# Altium footprint library Lib Marius.PcbLib: 393 footprints (part 17 of 25)
Each footprint in its own frame and in the unit in brackets; x right, y up, seen from the top. Pads: shape width x height; smd on the part's side, far side on the other; paste and mask are expansions set on the pad; w line width, h text height; cw(c..) or ccw(c..) is an arc to the next point about the centre after c.
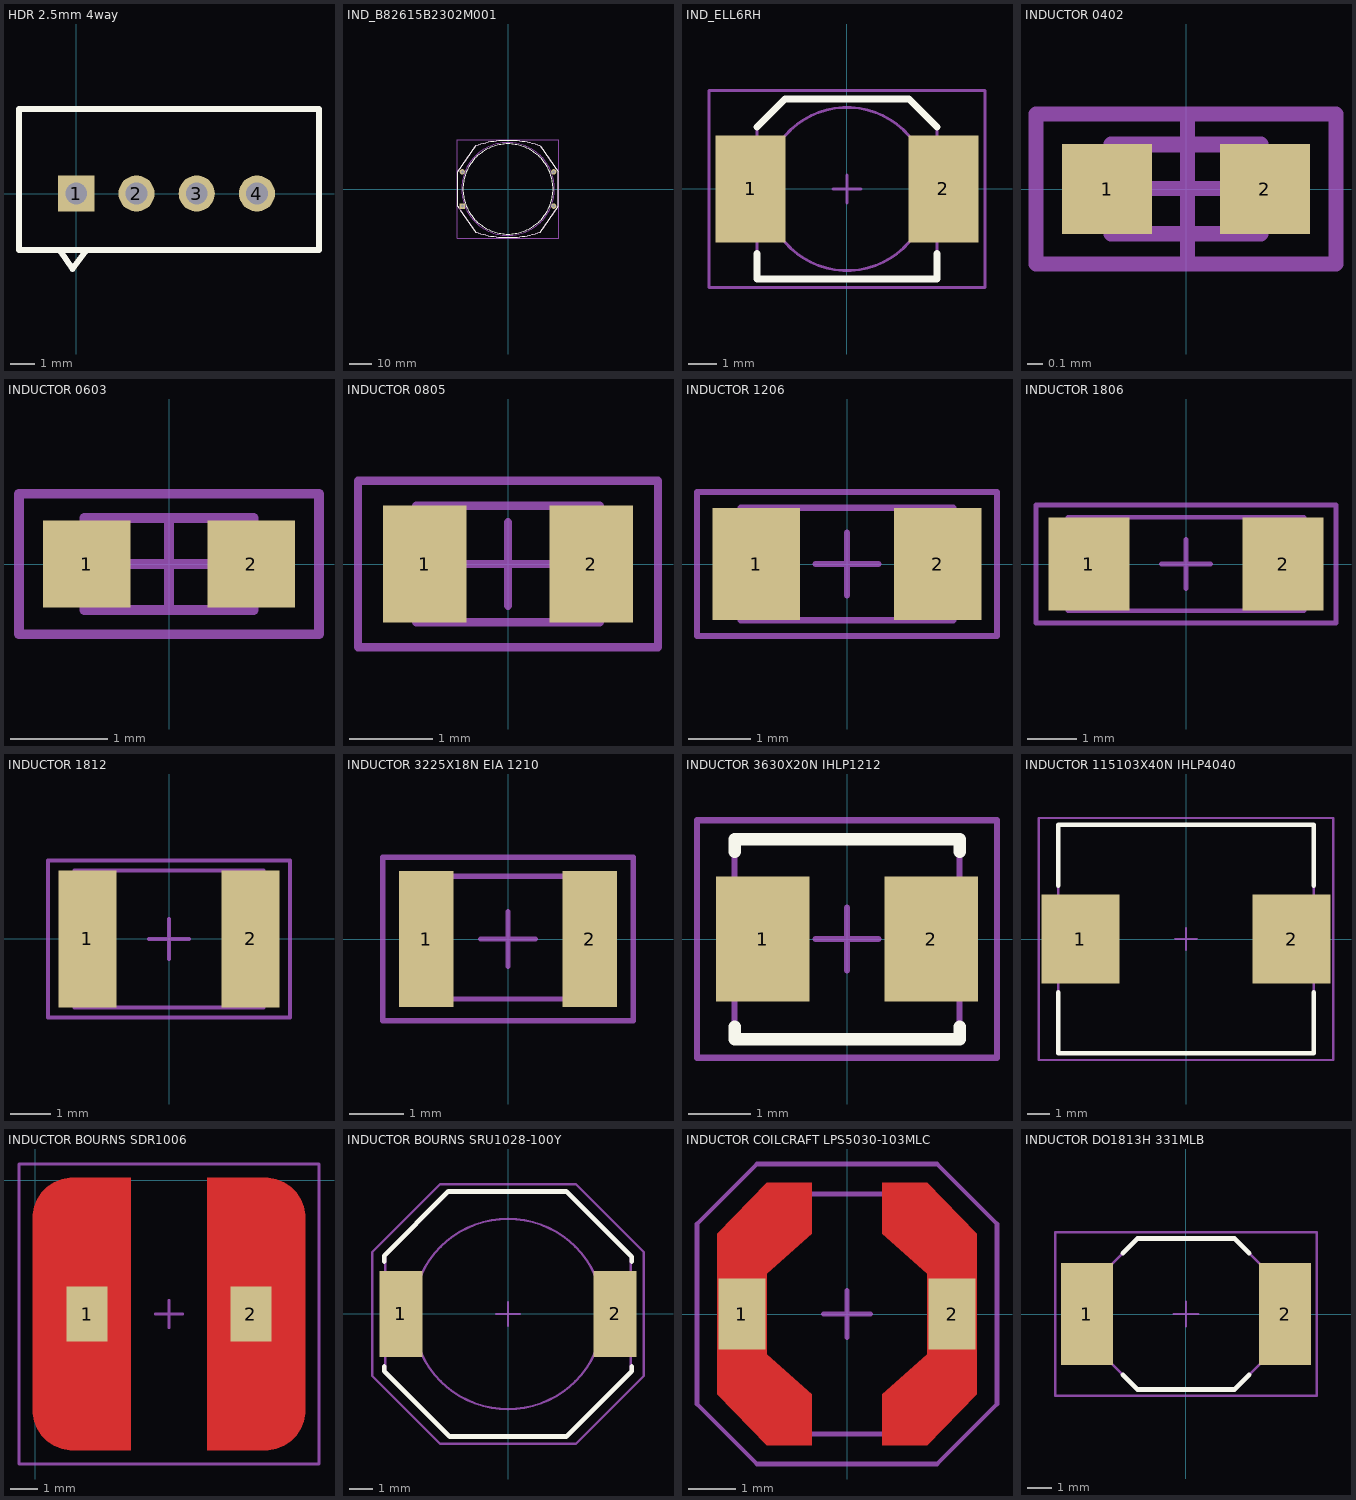
[diagram p16: the footprints below, top view; thin cyan lines are the x and y axes]

## HDR 2.5mm 4way [mm] "Connector; Header; 4 Position"
pads (4):
  rect 1.5x1.5 hole 0.9: 1(0,0)
  round 1.5 hole 0.9: 2(2.5,0) 3(5,0) 4(7.5,0)
Top Overlay:
  lines w0.254: -0.65,-2.4 -0.15,-3.125 0.4,-2.375 ; -2.375,-2.35 10.075,-2.35 10.075,3.5 -2.375,3.5 -2.375,-2.35
3D body "B4B-XH-A-M-LF--SN---3DModel-STEP-56544.STEP": height 7, standoff -3.4, extent -2.375,-2.325 10.025,3.425

## IND_B82615B2302M001 [mm] "Inductor, Power line choke"
height 30.5
pads (4):
  rect 2.3x2.3 hole 1.3: 1(-20,-7.5)
  round 2.3 hole 1.3: 2(20,-7.5) 3(20,7.5) 4(-20,7.5)
Top Overlay:
  circle w0.2: c0,0 r19.7
  lines w0.2: -21.547,-8.146 -22,-7.5 -22,7.5 -14,18.9 ; -20.794,-9.218 -14,-18.9 ; -14.087,-18.85 ccw(c0,22.2) 13.994,-18.882 ; -14.087,18.85 cw(c0,-22.2) 13.994,18.882 ; 14,-18.9 22,-7.5 22,7.5 14,18.9
  text ".Designator" at -23,-9 h1
Mechanical 13:
  circle w0.1: c0,0 r20.3
  lines w0.1: -14.087,-18.85 ccw(c0,22.2) 13.994,-18.882 ; -14.087,18.85 cw(c0,-22.2) 13.994,18.882 ; -14,-18.9 -22,-7.5 -22,7.5 -14,18.9 ; 14,-18.9 22,-7.5 22,7.5 14,18.9
Mechanical 15:
  lines w0.1: -22.3,-21.5 -22.3,21.5 22.3,21.5 22.3,-21.5 -22.3,-21.5
3D body: height 30.5, standoff 0, extent -20.299,-20.299 20.299,20.299

## IND_ELL6RH [mm] "Inductor, Power, ELL6RH, Panasonic"
height 2.8
pads (2):
  rect 2.5x3.8 smd: 1(-3.425,0) 2(3.425,0)
Top Overlay:
  lines w0.254: -3.2,-2.3 -3.2,-3.2 3.2,-3.2 3.2,-2.3 ; -3.2,2.2 -2.2,3.2 2.2,3.2 3.2,2.2
Mechanical 13:
  circle w0.1: c0,0 r2.9
  lines w0.1: -3.2,-3.2 3.2,-3.2 3.2,2.2 2.9,2.5 2.2,3.2 1.5,3.2 -2.2,3.2 -3.2,2.2 -3.2,-3.2
Mechanical 15:
  lines w0.1: -0.5,0 0.5,0 ; 0,-0.5 0,0.5 ; -4.9,-3.5 -4.9,3.5 4.9,3.5 4.9,-3.5 -4.9,-3.5
3D body: height 2.82, standoff 2.81, extent -1.839,0.846 -1.228,1.456
3D body: height 2.81, standoff 0, extent -2.908,-2.908 2.908,2.908
3D body: height 2.8, standoff 0, extent -3.201,-3.201 3.201,3.201

## INDUCTOR 0402 [mm] "Chip Inductor, 2-Leads, Body 1.0x0.5mm, IPC Medium Density"
height 0.5
pads (2):
  rect 0.6x0.6 smd mask+0.038: 1(-0.525,0) 2(0.525,0)
Mechanical 7:
  lines w0.01: -0.5,-0.25 -0.5,0.25 0.5,0.25 0.5,-0.25 -0.5,-0.25
Mechanical 13:
  lines w0.1: -0.5,-0.3 0.5,-0.3 0.5,0.3 -0.5,0.3 -0.5,-0.3
Mechanical 15:
  lines w0.1: -0.465,0.002 0.485,0.002 ; 0.01,-0.473 0.01,0.477 ; -1,-0.5 1,-0.5 1,0.5 -1,0.5 -1,-0.5
3D body "INDC1005X60N EIA 0402.step": height 0.25, standoff -0.25, extent -0.5,-0.3 0.5,0.3

## INDUCTOR 0603 [mm] "Chip Inductor, 2-Leads, Body 1.6x0.8mm, IPC Medium Density"
height 0.95
pads (2):
  rect 0.9x0.9 smd: 1(-0.85,0) 2(0.85,0)
Mechanical 13:
  lines w0.1: -0.875,-0.475 0.875,-0.475 0.875,0.475 -0.875,0.475 -0.875,-0.475
Mechanical 15:
  lines w0.1: -0.475,0 0.475,0 ; 0,-0.475 0,0.475 ; -1.55,-0.725 1.55,-0.725 1.55,0.725 -1.55,0.725 -1.55,-0.725
3D body "INDC1608X95N EIA 0603.step": height 0.79, standoff -0.01, extent -0.8,-0.475 0.8,0.475

## INDUCTOR 0805 [mm] "Chip Inductor, 2-Leads, Body 2.0x1.3mm, IPC Medium Density"
height 1.05
pads (2):
  rect 1x1.4 smd: 1(-1,0) 2(1,0)
Mechanical 13:
  lines w0.1: -1.1,-0.7 -1.1,0.7 1.1,0.7 1.1,-0.7 -1.1,-0.7
Mechanical 15:
  lines w0.1: -0.5,0 0.5,0 ; 0,-0.5 0,0.5 ; -1.8,-1 -1.8,1 1.8,1 1.8,-1 -1.8,-1
3D body "INDC2012X105N EIA 0805.step": height 1.05, standoff 0, extent -1,-0.6 1,0.6

## INDUCTOR 1206 [mm] "Chip Inductor, 2-Leads, Body 3.2x1.6mm, IPC Medium Density"
height 1.3
pads (2):
  rect 1.4x1.8 smd: 1(-1.45,0) 2(1.45,0)
Mechanical 13:
  lines w0.1: -1.7,-0.9 -1.7,0.9 1.7,0.9 1.7,-0.9 -1.7,-0.9
Mechanical 15:
  lines w0.1: -0.5,0 0.5,0 ; 0,-0.5 0,0.5 ; -2.4,-1.15 -2.4,1.15 2.4,1.15 2.4,-1.15 -2.4,-1.15
3D body "INDC3216X130N EIA 1206.step": height 1.3, standoff 0, extent -1.6,-0.8 1.6,0.8

## INDUCTOR 1806 [mm] "Chip Inductor, 2-Leads, Body 4.5x1.6mm, IPC Medium Density"
height 1.9
pads (2):
  rect 1.65x1.9 smd: 1(-1.975,0) 2(1.975,0)
Mechanical 13:
  lines w0.1: -2.4,-0.95 2.4,-0.95 2.4,0.95 -2.4,0.95 -2.4,-0.95
Mechanical 15:
  lines w0.1: -0.5,0 0.5,0 ; 0,-0.5 0,0.5 ; -3.05,-1.2 3.05,-1.2 3.05,1.2 -3.05,1.2 -3.05,-1.2
3D body "INDC4509X190N EIA 1806.step": height 0.9, standoff 0, extent -2.25,-0.95 2.25,0.95

## INDUCTOR 1812 [mm] "Chip Inductor, 2-Leads, Body 4.6x3.3mm, IPC Medium Density"
height 1.7
pads (2):
  rect 1.45x3.4 smd: 1(-2.025,0) 2(2.025,0)
Mechanical 13:
  lines w0.1: -2.35,-1.7 2.35,-1.7 2.35,1.7 -2.35,1.7 -2.35,-1.7
Mechanical 15:
  lines w0.1: -0.5,0 0.5,0 ; 0,-0.5 0,0.5 ; -3,-1.95 3,-1.95 3,1.95 -3,1.95 -3,-1.95
3D body "User Library-1812 SMD Resistor.STEP": height 1.63, standoff 0.03, extent -2.25,-1.6 2.25,1.6

## INDUCTOR 3225X18N EIA 1210 [mm] "Power Inductor, 2-Leads, Body 3.2x2.5mm, IPC Medium Density"
height 1.8
pads (2):
  rect 1x2.5 smd: 1(-1.5,0) 2(1.5,0)
Mechanical 13:
  lines w0.1: -1.252,-0.958 -1.111,-1.1 1.159,-1.1 1.3,-0.959 1.3,1.011 1.161,1.15 -1.252,1.15 -1.252,-0.958
Mechanical 15:
  lines w0.1: -0.5,0 0.5,0 ; 0,-0.5 0,0.5 ; -2.3,-1.5 2.3,-1.5 2.3,1.5 -2.3,1.5 -2.3,-1.5
3D body: height 0.64, standoff 0.51, extent -1.316,0.134 -0.674,0.667
3D body: height 0.64, standoff 0.51, extent 0.713,-0.401 1.415,0.134
3D body: height 0.38, standoff 0, extent -1.379,-0.311 -1.252,0.451
3D body: height 0.38, standoff 0, extent 1.288,-0.374 1.415,0.388
3D body: height 1.78, standoff 0, extent -1.227,-1.111 -0.782,-0.857
3D body: height 1.78, standoff 0, extent -1.227,0.87 -0.782,1.124
3D body: height 1.78, standoff 0, extent 0.831,-1.111 1.275,-0.857
3D body: height 1.78, standoff 0, extent 0.831,0.87 1.275,1.124
3D body: height 1.78, standoff 1.27, extent -1.252,-1.136 1.288,1.15
3D body: height 0.51, standoff 0, extent -1.252,-1.136 1.288,1.15
3D body: height 1.27, standoff 1.14, extent -0.945,-0.786 0.875,1.026
3D body: height 1.14, standoff 1.02, extent -0.71,-0.815 1.064,0.959
3D body: height 1.02, standoff 0.89, extent -0.763,-0.627 0.754,0.891
3D body: height 0.64, standoff 0.51, extent -0.85,-0.831 0.961,0.979
3D body: height 0.76, standoff 0.51, extent -0.719,-0.754 0.799,0.764
3D body: height 0.89, standoff 0.76, extent -0.825,-0.83 0.949,0.944

## INDUCTOR 3630X20N IHLP1212 [mm] "Power Inductor, 2-Leads, Body 3.6x3.0mm, IPC Medium Density"
height 2
pads (2):
  rect 1.5x2 smd: 1(-1.35,0) 2(1.35,0)
Top Overlay:
  lines w0.2: -1.8,-1.4 -1.8,-1.6 1.8,-1.6 1.8,-1.4 ; -1.8,1.4 -1.8,1.6 1.8,1.6 1.8,1.4
Mechanical 13:
  lines w0.1: -1.8,-1.6 -1.8,1.6 1.8,1.6 1.8,-1.6 -1.8,-1.6
Mechanical 15:
  lines w0.1: -0.5,0 0.5,0 ; 0,-0.5 0,0.5 ; -2.4,-1.9 -2.4,1.9 2.4,1.9 2.4,-1.9 -2.4,-1.9
3D body "IHLP-1212BZ-11.STEP": height 2.03, standoff -0.02, extent -1.65,-1.5 1.65,1.5

## INDUCTOR 115103X40N IHLP4040 [mm] "Power Inductor, 2-Leads, Body 11.5x10.3mm, IPC Medium Density"
height 4
pads (2):
  rect 3.5x4 smd: 1(-4.75,0) 2(4.75,0)
Top Overlay:
  lines w0.2: -5.75,-2.4 -5.75,-5.15 5.75,-5.15 5.75,-2.4 ; -5.75,2.4 -5.75,5.15 5.75,5.15 5.75,2.4
Mechanical 13:
  lines w0.1: -5.75,-5.15 -5.75,5.15 5.75,5.15 5.75,-5.15 -5.75,-5.15
Mechanical 15:
  lines w0.1: -0.5,0 0.5,0 ; 0,-0.5 0,0.5 ; -6.625,-5.45 -6.625,5.45 6.625,5.45 6.625,-5.45 -6.625,-5.45
3D body "IHLP4040.STEP": height 4, standoff 0, extent -5.75,-5.15 5.85,5.15

## INDUCTOR BOURNS SDR1006 [mm] "Power Inductor, 2-Leads, Body Dia. 9.8mm, IPC Medium Density"
height 5.8
pads (2):
  rect 1.5x2 smd: 1(1.9,-4.9) 2(7.9,-4.9)
Top Layer:
  region: 6.3,0.1 8.4,0.1 8.548,0.1 8.838,0.042 9.111,-0.071 9.356,-0.235 9.565,-0.444 9.729,-0.69 9.842,-0.963 9.9,-1.252 9.9,-1.4 9.9,-8.4 9.9,-8.548 9.842,-8.838 9.729,-9.111 9.565,-9.356 9.356,-9.565 9.111,-9.729 8.838,-9.842 8.548,-9.9 8.4,-9.9 6.3,-9.9
  region: 3.5,-9.9 1.4,-9.9 1.252,-9.9 0.962,-9.842 0.689,-9.729 0.444,-9.565 0.235,-9.356 0.071,-9.111 -0.042,-8.838 -0.1,-8.548 -0.1,-8.4 -0.1,-1.4 -0.1,-1.252 -0.042,-0.963 0.071,-0.69 0.235,-0.444 0.444,-0.235 0.689,-0.071 0.962,0.042 1.252,0.1 1.4,0.1 3.5,0.1
Mechanical 15:
  lines w0.1: 4.4,-4.9 5.4,-4.9 ; 4.9,-5.4 4.9,-4.4 ; -0.6,-10.4 10.4,-10.4 10.4,0.6 -0.6,0.6 -0.6,-10.4
3D body "Boursn_SDR1006.STEP": height 5.89, standoff 0.09, extent 0,-9.8 9.8,0

## INDUCTOR BOURNS SRU1028-100Y [mm] "Power Inductor, 2-Leads, Body 10.0x10.0mm, IPC Medium Density"
height 3.1
pads (2):
  rect 1.8x3.6 smd: 1(-4.5,0) 2(4.5,0)
Top Overlay:
  lines w0.2: -5.2,-2.2 -5.2,-2.4 -2.45,-5.15 2.45,-5.15 5.2,-2.4 5.2,-2.2 ; -5.2,2.2 -5.2,2.45 -2.5,5.15 2.45,5.15 5.2,2.4 5.2,2.2
Mechanical 13:
  circle w0.1: c0,0 r4
  lines w0.1: -5.15,-2.45 -2.45,-5.15 2.45,-5.15 5.15,-2.45 5.15,2.45 2.45,5.15 -2.45,5.15 -5.15,2.45 -5.15,-2.45
Mechanical 15:
  lines w0.1: -0.5,0 0.5,0 ; 0,-0.5 0,0.5 ; -5.7,-2.6 -5.7,2.6 -2.85,5.45 2.85,5.45 5.7,2.6 5.7,-2.6 2.85,-5.45 -2.85,-5.45 -5.7,-2.6
3D body: height 3.1, standoff 0, extent -5.15,-5.15 5.15,5.15
3D body: height 3.2, standoff 3.1, extent -3.999,-3.999 3.999,3.999

## INDUCTOR COILCRAFT LPS5030-103MLC [mm] "Shielded Power Inductor, 2-Leads, Body 4.8x4.8mm, IPC Medium Density"
height 3
pads (2):
  rect 1x1.5 smd: 1(-2.225,0) 2(2.225,0)
Top Layer:
  region: -1.7,0.85 -0.75,1.7 -0.75,2.775 -1.7,2.775 -2.75,1.7 -2.75,-1.7 -1.7,-2.775 -0.75,-2.775 -0.75,-1.7 -1.7,-0.85
  region: 1.7,-0.85 0.75,-1.7 0.75,-2.775 1.7,-2.775 2.75,-1.7 2.75,1.7 1.7,2.775 0.75,2.775 0.75,1.7 1.7,0.85
Mechanical 13:
  lines w0.1: -2.54,-1.651 -1.651,-2.54 1.651,-2.54 2.54,-1.651 2.54,1.66 1.66,2.54 1.651,2.54 -1.651,2.54 -2.54,1.651 -2.54,-1.651
Mechanical 15:
  lines w0.1: -0.5,0 0.5,0 ; 0,-0.5 0,0.5 ; -3.175,-1.905 -1.905,-3.175 1.905,-3.175 3.175,-1.905 3.175,1.905 1.905,3.175 -1.905,3.175 -3.175,1.905 -3.175,-1.905
3D body "Coilcraft-LPS5030-DEFAULT.step": height 3.03, standoff 0.03, extent -2.505,-2.505 2.505,2.505

## INDUCTOR DO1813H 331MLB [mm] "Power Inductor, 2-Leads, Body 8.9x6.1mm, IPC Medium Density"
height 5
pads (2):
  rect 2.1x4.1 smd: 1(-4,0) 2(4,0)
Top Overlay:
  lines w0.2: -2.55,-2.45 -1.95,-3.05 1.95,-3.05 2.55,-2.45 ; -2.55,2.45 -1.95,3.05 1.95,3.05 2.55,2.45
Mechanical 13:
  lines w0.1: -4.445,-0.555 -4.445,0.555 -1.95,3.05 1.95,3.05 4.445,0.555 4.445,-0.555 1.95,-3.05 -1.95,-3.05 -4.445,-0.555
Mechanical 15:
  lines w0.1: -0.5,0 0.5,0 ; 0,-0.5 0,0.5 ; -5.275,-3.3 5.275,-3.3 5.275,3.3 -5.275,3.3 -5.275,-3.3
3D body "INDP Coilcraft-DO1813.step": height 3.92, standoff 0, extent -4.445,-3.1 4.445,3